# EAGLE library part MCP2542FD-E_SN (library MCP2542FD-E_SN)
Microchip MCP2542FD-E/SN, CAN Transceiver 8Mbit/s 1-Channel CAN, ISO 11898-2, ISO 11898-5, ISO/DIS11898-2, 8-Pin SOIC Source: Datasheet
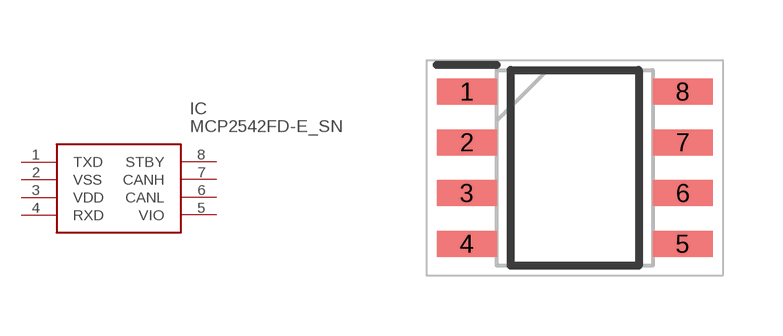
[diagram p0: symbol with the pads of SOIC127P600X175-8N; footprint SOIC127P600X175-8N]

Designator prefix IC

## MCP2542FD-E_SN (Description: Microchip MCP2542FD-E/SN, CAN Transceiver 8Mbit/s 1-Channel CAN, ISO 11898-2, ISO 11898-5, ISO/DIS11898-2, 8-Pin SOIC; Height: 1.75mm; Manufacturer_Name: Microchip; Manufacturer_Part_Number: MCP2542FD-E/SN; Mouser_Part_Number: 579-MCP2542FD-E/SN; Mouser_Price-Stock: https://www.mouser.co.uk/ProductDetail/Microchip-Technology-Atmel/MCP2542FD-E-SN?qs=qdgZG5p0FZ5pNizBl1u80Q%3D%3D)  [SOIC127P600X175-8N]
1  TXD
2  VSS
3  VDD
4  RXD
5  VIO
6  CANL
7  CANH
8  STBY

## Footprint SOIC127P600X175-8N (pad centres in mm)
MCP2542WFDT-E/SN
smd 1.5 x 0.65: 1 -2.7,1.905; 2 -2.7,0.635; 3 -2.7,-0.635; 4 -2.7,-1.905; 5 2.7,-1.905; 6 2.7,-0.635; 7 2.7,0.635; 8 2.7,1.905